# Altium footprint library SW_SR2512F-0206-19R0B-E9-N-W-159.PcbLib: 1 footprints
Each footprint in its own frame and in the unit in brackets; x right, y up, seen from the top. Pads: shape width x height; smd on the part's side, far side on the other; paste and mask are expansions set on the pad; w line width, h text height; cw(c..) or ccw(c..) is an arc to the next point about the centre after c.
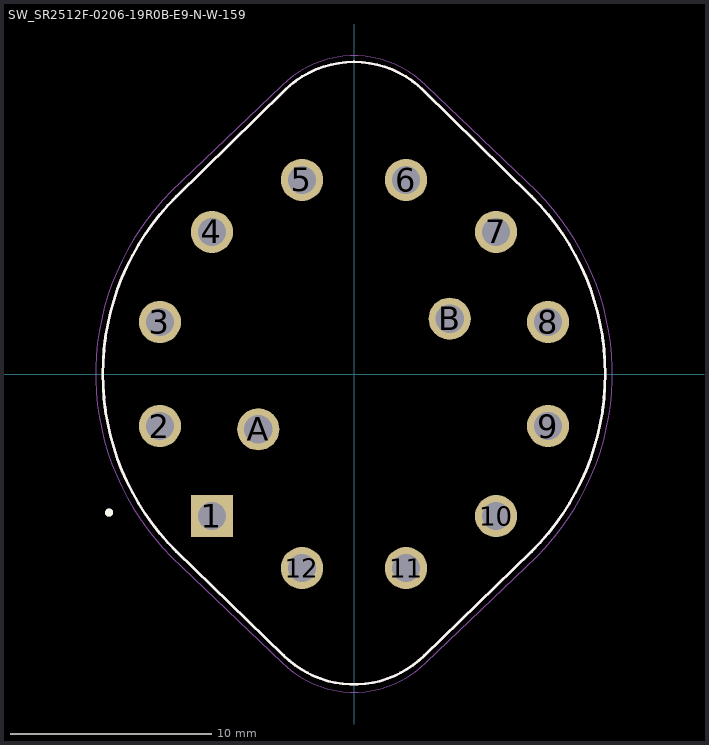
[diagram p0: the footprint, top view; thin cyan lines are the x and y axes]

## SW_SR2512F-0206-19R0B-E9-N-W-159 [mm]
pads (14):
  rect 2.1x2.1 hole 1.4: 1(-7.071,-7.071)
  round 2.1 hole 1.4: 2(-9.659,-2.588) 3(-9.659,2.588) 4(-7.071,7.071) 5(-2.588,9.659) 6(2.588,9.659) 7(7.071,7.071) 8(9.659,2.588) 9(9.659,-2.588) 10(7.071,-7.071) 11(2.588,-9.659) 12(-2.588,-9.659) A(-4.763,-2.75) B(4.763,2.75)
Top Overlay:
  circle w0.2: c-12.188,-6.899 r0.1
  lines w0.127: -8.84,-8.84 cw(c0,0) -8.84,8.84 -3.48,14.09 cw(c0,10.61) 3.48,14.09 8.84,8.84 cw(c0,0) 8.84,-8.84 3.5,-14 cw(c0,-10.5) -3.5,-14 -8.84,-8.84
Mechanical 13:
  circle w0.2: c-12.188,-6.899 r0.1
  lines w0.127: -8.84,-8.84 cw(c0,0) -8.84,8.84 -3.48,14.09 cw(c0,10.61) 3.48,14.09 8.84,8.84 cw(c0,0) 8.84,-8.84 3.5,-14 cw(c0,-10.5) -3.5,-14 -8.84,-8.84
Mechanical 15:
  lines w0.05: -9.09,-9.09 cw(c0,0) -9.09,9.09 -3.605,14.34 cw(c0,10.735) 3.605,14.34 9.09,9.09 cw(c0,0) 9.09,-9.09 3.605,-14.34 cw(c0,-10.735) -3.605,-14.34 -9.09,-9.09
3D body "SR2512F-0206-19R0B-E9-N-W-159--3DModel-STEP-56544.STEP": height 32.5, standoff -3.5, extent -12.521,-15.367 12.446,15.633